# Altium footprint library IND_SMD_ELL6PG.PcbLib: 1 footprints
Each footprint in its own frame and in the unit in brackets; x right, y up, seen from the top. Pads: shape width x height; smd on the part's side, far side on the other; paste and mask are expansions set on the pad; w line width, h text height; cw(c..) or ccw(c..) is an arc to the next point about the centre after c.
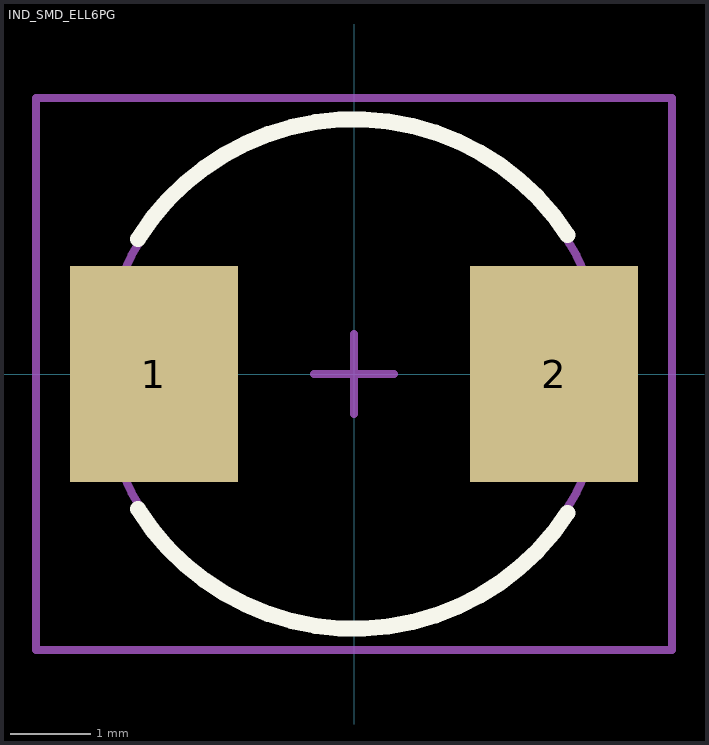
[diagram p0: the footprint, top view; thin cyan lines are the x and y axes]

## IND_SMD_ELL6PG [mm] "Precision Wire Wound Inductor, 2-Leads, Body 6.0x6.0mm, IPC Medium Density"
height 2
pads (2):
  rect 2.1x2.7 smd: 1(-2.5,0) 2(2.5,0)
Top Overlay:
  lines w0.2: -2.699,-1.687 ccw(c0,0) 2.668,-1.734 ; -2.699,1.687 cw(c0,0) 2.668,1.734
Mechanical 13:
  circle w0.1: c0,0 r3.15
Mechanical 15:
  lines w0.1: -0.5,0 0.5,0 ; 0,-0.5 0,0.5 ; -3.975,-3.45 -3.975,3.45 3.975,3.45 3.975,-3.45 -3.975,-3.45
3D body: height 2, standoff 0, extent -3,-2.85 3,2.85